# Altium schematic symbol library sensor_lib.SchLib: 16 symbols
Pins are listed as number, name and electrical type; pins without a type are passive.

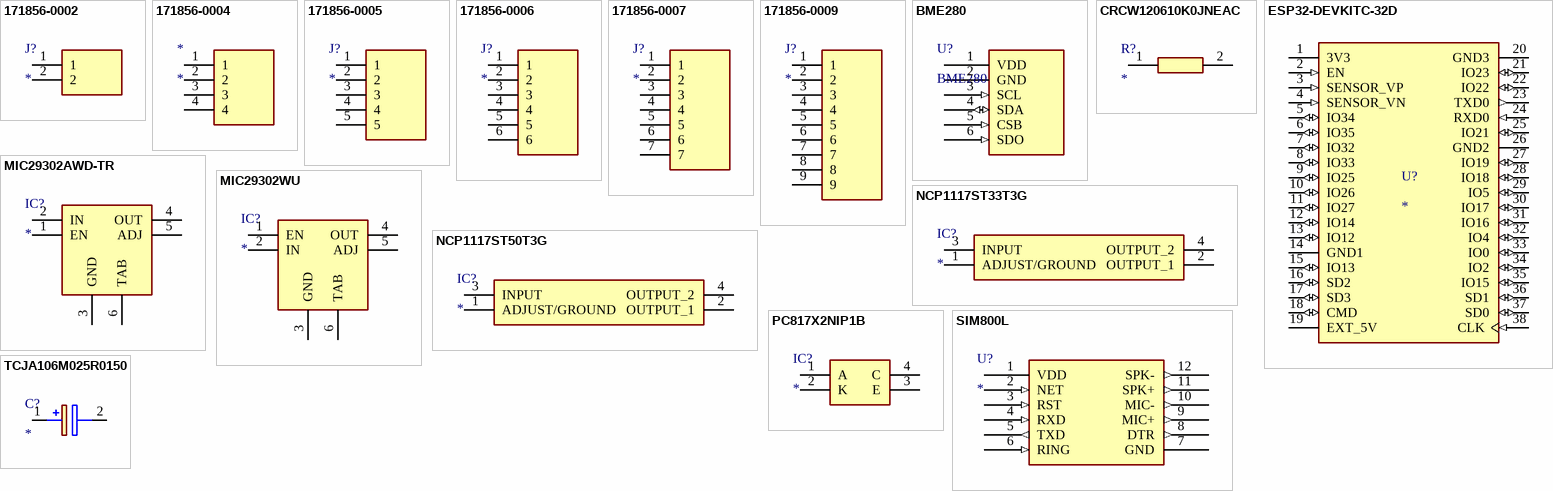
[diagram p0: symbols 171856-0002 to TCJA106M025R0150]

## 171856-0002
designator J?
Connector; Manufacturer_Name: Molex; Manufacturer_Part_Number: 171856-0002; Datasheet Link: https://www.digikey.com/product-detail/en/molex/1718560002/WM10153-ND/4423109; Height: 8.18mm; Mouser Part Number: 538-171856-0002; Mouser Price/Stock: https://www.mouser.co.uk/ProductDetail/Molex/171856-0002?qs=s7UCm7gO1bYKeEMrirBzyw%3D%3D; Arrow Part Number: 171856-0002; Arrow Price/Stock: https://www.arrow.com/en/products/171856-0002/molex
footprint SHDR2W99P0X254_1X2_493X635X818P
pins: 1, 2

## 171856-0004
designator *
KK RPC 100 HDR FRLK VERT 04 CKT; Manufacturer: Molex; Manufacturer Part Number: 1718560004; Current Rating: 4A; Voltage Rating: 250V; Number of Positions: 4; Gender: Male; Connector Type: Male Pin; Pitch: 2.54mm; Contact Post Length: 2.34mm; Glow Wire Compliant: Compliant; Supplier 1: Mouser; RoHS: Yes; Category: Headers and Wire Housings; Stock 1: 33104; Pricing 1: 1=0.40000, 10=0.32400, 50=0.32400, 100=0.23800, 1000=0.20000, 10000=0.15600 (USD); Mount: Through Hole; Contact Plating: Tin,Matte; Contact Material: Brass,Tin; Color: Black; Weight: 0.015838oz; Housing Color: Black; Housing Material: Nylon; Min Operating Temperature: -40°C; Max Operating Temperature: 105°C; Number of Rows: 1; Contact Gender: Male; Packaging: Bulk; Package Quantity: 4000; Fastening Type: Friction; Termination: Solder; Number of Contacts: 4; Orientation: Vertical; Number of Circuits: 4; Length: 10.1mm; Contact Mating Length: 0.293inch; Depth: 6.35mm; Radiation Hardening: No; REACH SVHC: Unknown; Halogen Free: Low Halogen; Flammability Rating: UL94 V-2; RoHS Compliant: Yes; ComponentLink1URL: https://datasheet.ciiva.com/24135/1718560004-pcb-headers-295616-24135986.pdf?src-supplier=Mouser; ComponentLink1Description: https://datasheet.ciiva.com/24135/1718560004-pcb-headers-295616-24135986.pdf?src-supplier=Mouser; ComponentLink2URL: https://datasheet.ciiva.com/30102/162471718560004-pcb-headers-30102326.pdf?src-supplier=Onlinecomponents.com; ComponentLink2Description: https://datasheet.ciiva.com/30102/162471718560004-pcb-headers-30102326.pdf?src-supplier=Onlinecomponents.com; ComponentLink3URL: https://datasheet.ciiva.com/30492/0900766b8129e622-30492729.pdf?src-supplier=RSComponents; ComponentLink3Description: https://datasheet.ciiva.com/30492/0900766b8129e622-30492729.pdf?src-supplier=RSComponents; ComponentLink4URL: https://datasheet.ciiva.com/28500/1769844-28500352.pdf?src-supplier=Element14; ComponentLink4Description: https://datasheet.ciiva.com/28500/1769844-28500352.pdf?src-supplier=Element14; ComponentLink5URL: https://datasheet.ciiva.com/29948/1718560002-sd-29948535.pdf?src-supplier=Avnet; ComponentLink5Description: https://datasheet.ciiva.com/29948/1718560002-sd-29948535.pdf?src-supplier=Avnet; ComponentLink6URL: https://datasheet.ciiva.com/29152/1718560002-sd-29152029.pdf?src-supplier=Digi-Key; ComponentLink6Description: https://datasheet.ciiva.com/29152/1718560002-sd-29152029.pdf?src-supplier=Digi-Key; ComponentLink7URL: https://datasheet.ciiva.com/30935/70314280-30935659.pdf?src-supplier=Allied+Electronics; ComponentLink7Description: https://datasheet.ciiva.com/30935/70314280-30935659.pdf?src-supplier=Allied+Electronics
footprint SHDR4W99P0X254_1X4_1255X635X1124P
pins: 1, 2, 3, 4

## 171856-0005
designator J?
Connector; Manufacturer_Name: Molex; Manufacturer_Part_Number: 171856-0005; Datasheet Link: https://www.molex.com/pdm_docs/sd/1718560005_sd.pdf; Height: 11.24mm
footprint SHDR5W99P0X254_1X5_1255X635X1124P
pins: 1, 2, 3, 4, 5

## 171856-0006
designator J?
Connector; Manufacturer_Name: Molex; Manufacturer_Part_Number: 171856-0006; Datasheet Link: https://www.molex.com/pdm_docs/sd/1718560006_sd.pdf; Height: 11mm; Mouser Part Number: 538-171856-0006; Mouser Price/Stock: https://www.mouser.co.uk/ProductDetail/Molex/171856-0006?qs=s7UCm7gO1bZ%2FF4kPA9T7bA%3D%3D
footprint HDRV6W99P0X254_1X6_1509X635X1100P
pins: 1, 2, 3, 4, 5, 6

## 171856-0007
designator J?
Connector; Manufacturer_Name: Molex; Manufacturer_Part_Number: 171856-0007; Datasheet Link: https://www.molex.com/pdm_docs/sd/1718560007_sd.pdf; Height: 11.24mm; Mouser Part Number: 538-171856-0007; Mouser Price/Stock: https://www.mouser.com/Search/Refine.aspx?Keyword=538-171856-0007
footprint SHDR7W99P0X254_1X7_1763X635X1124P
pins: 1, 2, 3, 4, 5, 6, 7

## 171856-0009
designator J?
Connector; Manufacturer_Name: Molex; Manufacturer_Part_Number: 171856-0009; Datasheet Link: https://www.molex.com/pdm_docs/sd/1718560009_sd.pdf; Height: 8.18mm; Mouser Part Number: 538-171856-0009; Mouser Price/Stock: https://www.mouser.com/Search/Refine.aspx?Keyword=538-171856-0009
footprint SHDR9W99P0X254_1X9_2271X635X818P
pins: 1, 2, 3, 4, 5, 6, 7, 8, 9

## BME280
designator U?
Digital Pressure Sensor
footprint BME280
pins: 1 VDD (power), 2 GND (power), 3 SCL (in), 4 SDA (io), 5 CSB (in), 6 SDO (in)

## CRCW120610K0JNEAC
designator R?
Resistor; Manufacturer_Name: Vishay; Manufacturer_Part_Number: CRCW120610K0JNEAC; Datasheet Link: http://componentsearchengine.com/Datasheets/1/CRCW120610K0JNEAC.pdf; Height: 0.6mm; Mouser Part Number: 71-CRCW120610K0JNEAC; Mouser Price/Stock: https://www.mouser.co.uk/ProductDetail/Vishay-Dale/CRCW120610K0JNEAC?qs=E3Y5ESvWgWMDF4Y9DPVm9A%3D%3D; Arrow Part Number: CRCW120610K0JNEAC; Arrow Price/Stock: https://www.arrow.com/en/products/crcw120610k0jneac/vishay
footprint RESC3216X60N
pins: 1, 2

## ESP32-DEVKITC-32D
designator U?
EVAL BOARD FOR ESP-WROOM-32; MP: ESP32-DEVKITC-32D; MF: Espressif Systems; Value: *; Price: None; Check_prices: https://www.snapeda.com/parts/ESP32-DEVKITC-32D/Espressif%20Systems/view-part/2777395/?ref=eda; SnapEDA_Link: https://www.snapeda.com/parts/ESP32-DEVKITC-32D/Espressif%20Systems/view-part/2777395/?ref=snap; Availability: Warning; Purchase-URL: https://pricing.snapeda.com/search/part/ESP32-DEVKITC-32D/?ref=eda; Package: None
footprint MODULE_ESP32-DEVKITC-32D
pins: 1 3V3 (power), 2 EN (in), 3 SENSOR_VP (in), 4 SENSOR_VN (in), 5 IO34 (io), 6 IO35 (io), 7 IO32 (io), 8 IO33 (io), 9 IO25 (io), 10 IO26 (io), 11 IO27 (io), 12 IO14 (io), 13 IO12 (io), 14 GND1 (power), 15 IO13 (io), 16 SD2 (io), 17 SD3 (io), 18 CMD (io), 19 EXT_5V (power), 20 GND3 (power), 21 IO23 (io), 22 IO22 (io), 23 TXD0 (out), 24 RXD0 (in), 25 IO21 (io), 26 GND2 (power), 27 IO19 (io), 28 IO18 (io), 29 IO5 (io), 30 IO17 (io), 31 IO16 (io), 32 IO4 (io), 33 IO0 (io), 34 IO2 (io), 35 IO15 (io), 36 SD1 (io), 37 SD0 (io), 38 CLK (in)

## MIC29302AWD-TR
designator IC?
Integrated Circuit; Manufacturer_Name: Microchip; Manufacturer_Part_Number: MIC29302AWD-TR; Datasheet Link: http://ww1.microchip.com/downloads/en/DeviceDoc/MIC29302A.pdf; Height: 4mm; Mouser Part Number: 998-MIC29302AWDTR; Mouser Price/Stock: https://www.mouser.co.uk/ProductDetail/Microchip-Technology-Micrel/MIC29302AWD-TR/?qs=U6T8BxXiZAXz0ER3mdGD3A%3D%3D
footprint MIC29302AWDTR
pins: 1 EN, 2 IN, 3 GND, 4 OUT, 5 ADJ, 6 TAB

## MIC29302WU
designator IC?
Integrated Circuit; Manufacturer_Name: Microchip; Manufacturer_Part_Number: MIC29302WU; Datasheet Link: https://www.mouser.in/datasheet/2/268/MIC2915x_30x_50x_75x_High_Current_Low_Dropout_Regu-1889172.pdf; Height: 5.08mm; Mouser Part Number: 998-MIC29302WU; Mouser Price/Stock: https://www.mouser.co.uk/ProductDetail/Microchip-Technology-Micrel/MIC29302WU/?qs=kh6iOki%2FeLGH5fS1ZBQ3pA%3D%3D
footprint MIC29302WU
pins: 1 EN, 2 IN, 3 GND, 4 OUT, 5 ADJ, 6 TAB

## NCP1117ST33T3G
designator IC?
Integrated Circuit; Manufacturer_Name: ON Semiconductor; Manufacturer_Part_Number: NCP1117ST33T3G; Datasheet Link: http://www.onsemi.com/pub/Collateral/NCP1117-D.PDF; Height: 1.8mm; Mouser Part Number: 863-NCP1117ST33T3G; Mouser Price/Stock: https://www.mouser.co.uk/ProductDetail/ON-Semiconductor/NCP1117ST33T3G/?qs=Gev%252BmEvV0iZb%2FE8ahUDx3w%3D%3D; Arrow Part Number: NCP1117ST33T3G; Arrow Price/Stock: https://www.arrow.com/en/products/ncp1117st33t3g/on-semiconductor
footprint SOT230P700X180-4N
pins: 1 ADJUST/GROUND, 2 OUTPUT_1, 3 INPUT, 4 OUTPUT_2

## NCP1117ST50T3G
designator IC?
Integrated Circuit; Manufacturer_Name: ON Semiconductor; Manufacturer_Part_Number: NCP1117ST50T3G; Datasheet Link: http://www.onsemi.com/pub/Collateral/NCP1117-D.PDF; Height: 1.8mm; Mouser Part Number: 863-NCP1117ST50T3G; Mouser Price/Stock: https://www.mouser.co.uk/ProductDetail/ON-Semiconductor/NCP1117ST50T3G/?qs=Gev%252BmEvV0ib6dijy6U0dhQ%3D%3D; Arrow Part Number: NCP1117ST50T3G; Arrow Price/Stock: https://www.arrow.com/en/products/ncp1117st50t3g/on-semiconductor
footprint SOT230P700X180-4N
pins: 1 ADJUST/GROUND, 2 OUTPUT_1, 3 INPUT, 4 OUTPUT_2

## PC817X2NIP1B
designator IC?
Integrated Circuit; Manufacturer_Name: Sharp Microelectronics; Manufacturer_Part_Number: PC817X2NIP1B; Datasheet Link: https://global.sharp/products/device/lineup/data/pdf/datasheet/PC817XxNSZ1B_e.pdf; Height: 4.2mm; Mouser Part Number: 852-PC817X2NIP1B; Mouser Price/Stock: https://www.mouser.co.uk/ProductDetail/Sharp-Microelectronics/PC817X2NIP1B?qs=rrS6PyfT74d%252BYyTnGmD7xQ%3D%3D; Arrow Part Number: PC817X2NIP1B; Arrow Price/Stock: https://www.arrow.com/en/products/pc817x2nip1b/sharp
footprint SOP254P960X420-4N
pins: 1 A, 2 K, 3 E, 4 C

## SIM800L
designator U?
footprint SIM800L
pins: 1 VDD (power), 2 NET (in), 3 RST (in), 4 RXD (in), 5 TXD (out), 6 RING (in), 7 GND (power), 8 DTR (out), 9 MIC+ (out), 10 MIC- (out), 11 SPK+ (out), 12 SPK- (out)

## TCJA106M025R0150
designator C?
Capacitor Polarised; Manufacturer_Name: AVX; Manufacturer_Part_Number: TCJA106M025R0150; Datasheet Link: http://datasheets.avx.com/TCJ.pdf; Height: 1.8mm; Mouser Part Number: 581-TCJA106M025R0150; Mouser Price/Stock: https://www.mouser.co.uk/ProductDetail/AVX/TCJA106M025R0150?qs=YlHR7fkrjk8yXhDBos7kTw%3D%3D; Arrow Part Number: TCJA106M025R0150; Arrow Price/Stock: https://www.arrow.com/en/products/tcja106m025r0150/avx
footprint CAPPM3216X180N
pins: 1 +, 2 -